# EAGLE library part TC2030-IDC (library TC2030-IDC)
Tag-Connect In Circuit Programming & Debug Cable 6 Pin http://www.tag-connect.com
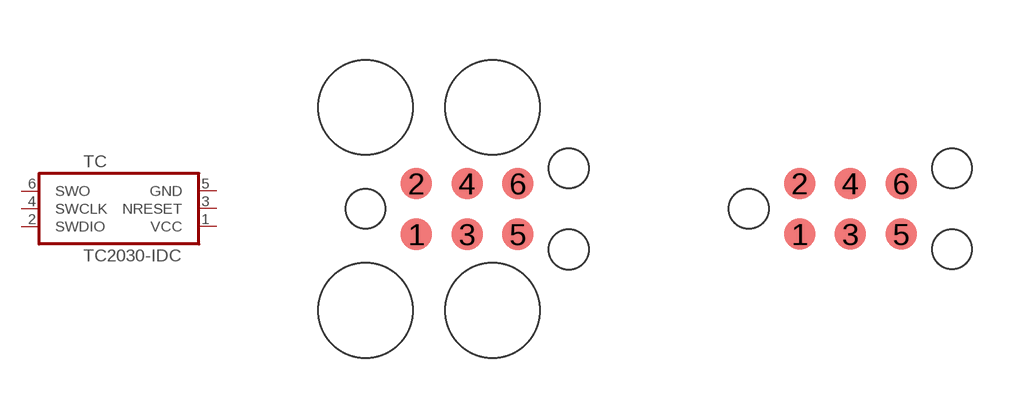
[diagram p0: symbol with the pads of TC2030-IDC; footprints TC2030-IDC, TC2030-IDC-NL]

Designator prefix TC

## TC2030-IDC (AVAILABILITY: Unavailable; DESCRIPTION: Cable Adapter 6 Pos; MF: Tag-Connect LLC; MP: TC2030-IDC; PACKAGE: None; PRICE: None)  [TC2030-IDC]
1  VCC  pas
2  SWDIO  pas
3  NRESET  pas
4  SWCLK  pas
5  GND  pas
6  SWO  pas

## TC2030-IDC-NL (AVAILABILITY: Unavailable; DESCRIPTION: Cable Adapter 6 Pos; MF: Tag-Connect LLC; MP: TC2030-IDC; PACKAGE: None; PRICE: None)  [TC2030-IDC-NL]
Pads as for TC2030-IDC

## TC2030-IDCTC2030-IDC-NL-WOPIN  [TC2030-IDC-NL-WOPIN]
1  GND  pas
2  NRESET  pas
3  SWCLK  pas
4  SWDIO  pas
5  SWO  pas
6  VCC  pas

## Footprint TC2030-IDC (pad centres in mm)
smd 0.787 x 0.787: 1 -1.27,-0.635; 2 -1.27,0.635; 3 0,-0.635; 4 0,0.635; 5 1.27,-0.635; 6 1.27,0.635
hole 0.991 at -2.54,0
hole 0.991 at 2.54,1.016
hole 0.991 at 2.54,-1.016
hole 2.375 at -2.54,2.54
hole 2.375 at -2.54,-2.54
hole 2.375 at 0.635,2.54
hole 2.375 at 0.635,-2.54

## Footprint TC2030-IDC-NL (pad centres in mm)
smd 0.787 x 0.787: 1 -1.27,-0.635; 2 -1.27,0.635; 3 0,-0.635; 4 0,0.635; 5 1.27,-0.635; 6 1.27,0.635
hole 0.991 at -2.54,0
hole 0.991 at 2.54,1.016
hole 0.991 at 2.54,-1.016

## Footprint TC2030-IDC-NL-WOPIN (pad centres in mm)
smd 0.787 x 0.787: 1 -1.27,-0.635; 2 -1.27,0.635; 3 0,-0.635; 4 0,0.635; 5 1.27,-0.635; 6 1.27,0.635